# EAGLE library part AP62600 (library pimoroni-ics)
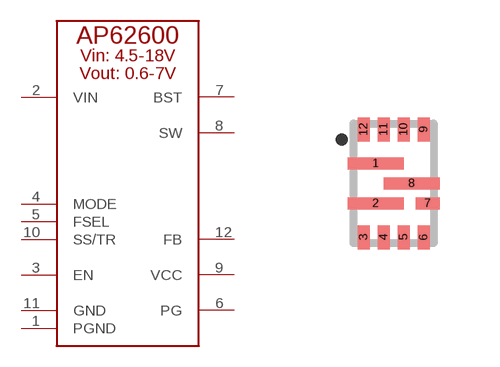
[diagram p165: symbol with the pads of AP62600; footprint AP62600]

Designator prefix U

## AP62600  [AP62600]
1  PGND
2  VIN
3  EN
4  MODE
5  FSEL
6  PG
7  BST
8  SW
9  VCC
10  SS/TR
11  GND
12  FB

## Footprint AP62600 (pad centres in mm)
smd 1.4 x 0.3: 1 -0.45,0.5; 2 -0.45,-0.5; 8 0.45,0
smd 0.3 x 0.6: 3 -0.75,-1.35; 4 -0.25,-1.35; 5 0.25,-1.35; 6 0.75,-1.35; 9 0.75,1.35; 10 0.25,1.35; 11 -0.25,1.35; 12 -0.75,1.35
smd 0.6 x 0.3: 7 0.85,-0.5